# Altium schematic symbol library RESISTORS.SchLib: 1 symbol
Pins are listed as number, name and electrical type; pins without a type are passive.

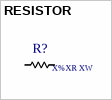
[diagram p0: symbol RESISTOR]

## RESISTOR
designator R?  value XR  Power: XW  Tolerance: X%  (hidden comment: *)
Minimum_Temp_C: -40; Maximum_Temp_C: +120
footprint 1_RES_SMD_01005_0.031W
footprint 2_RES_SMD_0201_0.05W
footprint 3_RES_SMD_0402_0.062W
footprint 4_RES_SMD_0603_0.10W
footprint 5_RES_SMD_0805_0.125W
footprint 6_RES_SMD_1206_0.25W
footprint 7_RES_SMD_1210_0.5W
footprint 8_RES_SMD_1812_0.75W
footprint 9_RES_SMD_2010_0.75W
footprint 10_RES_SMD_2512_1W
pins: 1, 2